# Altium schematic symbol library LED_CAP_RES_0603.SchLib: 1 symbol
Pins are listed as number, name and electrical type; pins without a type are passive.

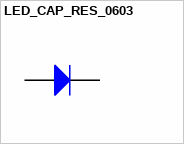
[diagram p0: symbol LED_CAP_RES_0603]

## LED_CAP_RES_0603
designator LED_CAP_RES_0603
footprint LED/CAP/RES 0603
pins: 1 A, 2 K